# EAGLE library part FV1 (library mb_ics)
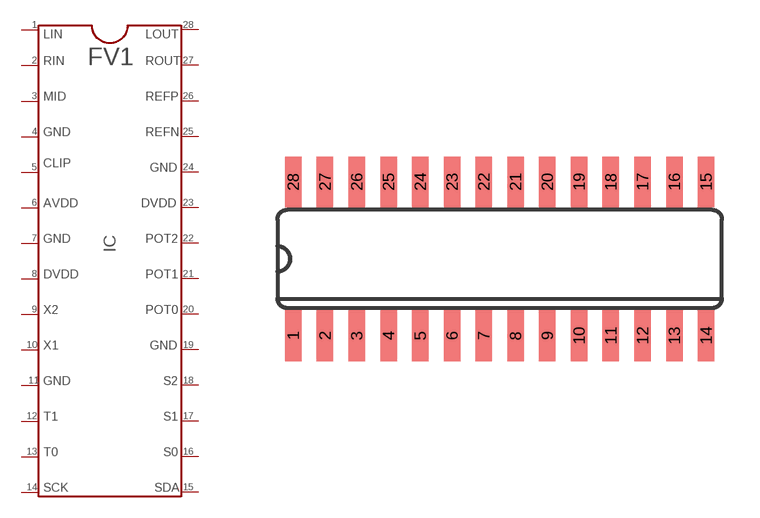
[diagram p31: symbol with the pads of SO28; footprint SO28]

Designator prefix IC

## FV1  [SO28]
1  P$1
2  P$2
3  P$3
4  P$4
5  P$5
6  P$6
7  P$7
8  P$8
9  P$9
10  P$10
11  P$11
12  P$12
13  P$13
14  P$14
15  P$15
16  P$16
17  P$17
18  P$18
19  P$19
20  P$20
21  P$21
22  P$22
23  P$23
24  P$24
25  P$25
26  P$26
27  P$27
28  P$28

## Footprint SO28 (pad centres in mm)
smd 0.66 x 2.032: 1 -8.255,-3.073; 2 -6.985,-3.073; 3 -5.715,-3.073; 4 -4.445,-3.073; 5 -3.175,-3.073; 6 -1.905,-3.073; 7 -0.635,-3.073; 8 0.635,-3.073; 9 1.905,-3.073; 10 3.175,-3.073; 11 4.445,-3.073; 12 5.715,-3.073; 13 6.985,-3.073; 14 8.255,-3.073; 15 8.255,3.073; 16 6.985,3.073; 17 5.715,3.073; 18 4.445,3.073; 19 3.175,3.073; 20 1.905,3.073; 21 0.635,3.073; 22 -0.635,3.073; 23 -1.905,3.073; 24 -3.175,3.073; 25 -4.445,3.073; 26 -5.715,3.073; 27 -6.985,3.073; 28 -8.255,3.073